# EAGLE library part FLOPPY_34PIN_CONN (library _MyComponents)
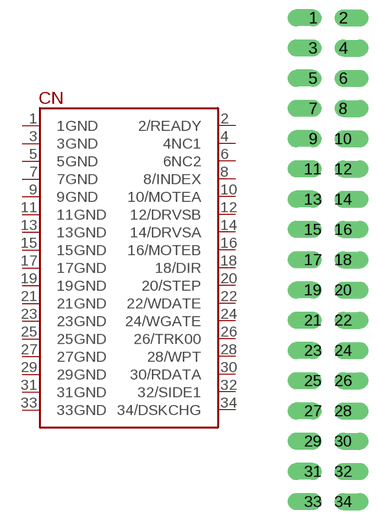
[diagram p14: symbol with the pads of FLOPPY_34PIN_DUALROW; footprint FLOPPY_34PIN_DUALROW]

Designator prefix CN

## FLOPPY_34PIN_CONN  [FLOPPY_34PIN_DUALROW]
1  1GND  pwr
2  2/READY  out
3  3GND  pwr
4  4NC1
5  5GND  pwr
6  6NC2
7  7GND  pwr
8  8/INDEX  out
9  9GND  pwr
10  10/MOTEA  in
11  11GND  pwr
12  12/DRVSB  in
13  13GND  pwr
14  14/DRVSA  in
15  15GND  pwr
16  16/MOTEB  in
17  17GND  pwr
18  18/DIR  in
19  19GND  pwr
20  20/STEP  in
21  21GND  pwr
22  22/WDATE  in
23  23GND  pwr
24  24/WGATE  in
25  25GND  pwr
26  26/TRK00  out
27  27GND  pwr
28  28/WPT  out
29  29GND  pwr
30  30/RDATA  out
31  31GND  pwr
32  32/SIDE1  in
33  33GND  pwr
34  34/DSKCHG  out

## Footprint FLOPPY_34PIN_DUALROW (pad centres in mm)
drill 0.8 pad 1.422 offset: 1 0,0; 2 2.54,0; 3 0,-2.54; 4 2.54,-2.54; 5 0,-5.08; 6 2.54,-5.08; 7 0,-7.62; 8 2.54,-7.62; 9 0,-10.16; 10 2.54,-10.16; 11 0,-12.7; 12 2.54,-12.7; 13 0,-15.24; 14 2.54,-15.24; 15 0,-17.78; 16 2.54,-17.78; 17 0,-20.32; 18 2.54,-20.32; 19 0,-22.86; 20 2.54,-22.86; 21 0,-25.4; 22 2.54,-25.4; 23 0,-27.94; 24 2.54,-27.94; 25 0,-30.48; 26 2.54,-30.48; 27 0,-33.02; 28 2.54,-33.02; 29 0,-35.56; 30 2.54,-35.56; 31 0,-38.1; 32 2.54,-38.1; 33 0,-40.64; 34 2.54,-40.64